# Altium schematic symbol library kmilo17pet-Microchip_MixedSignal.SchLib: 1399 symbols (part 32 of 36)
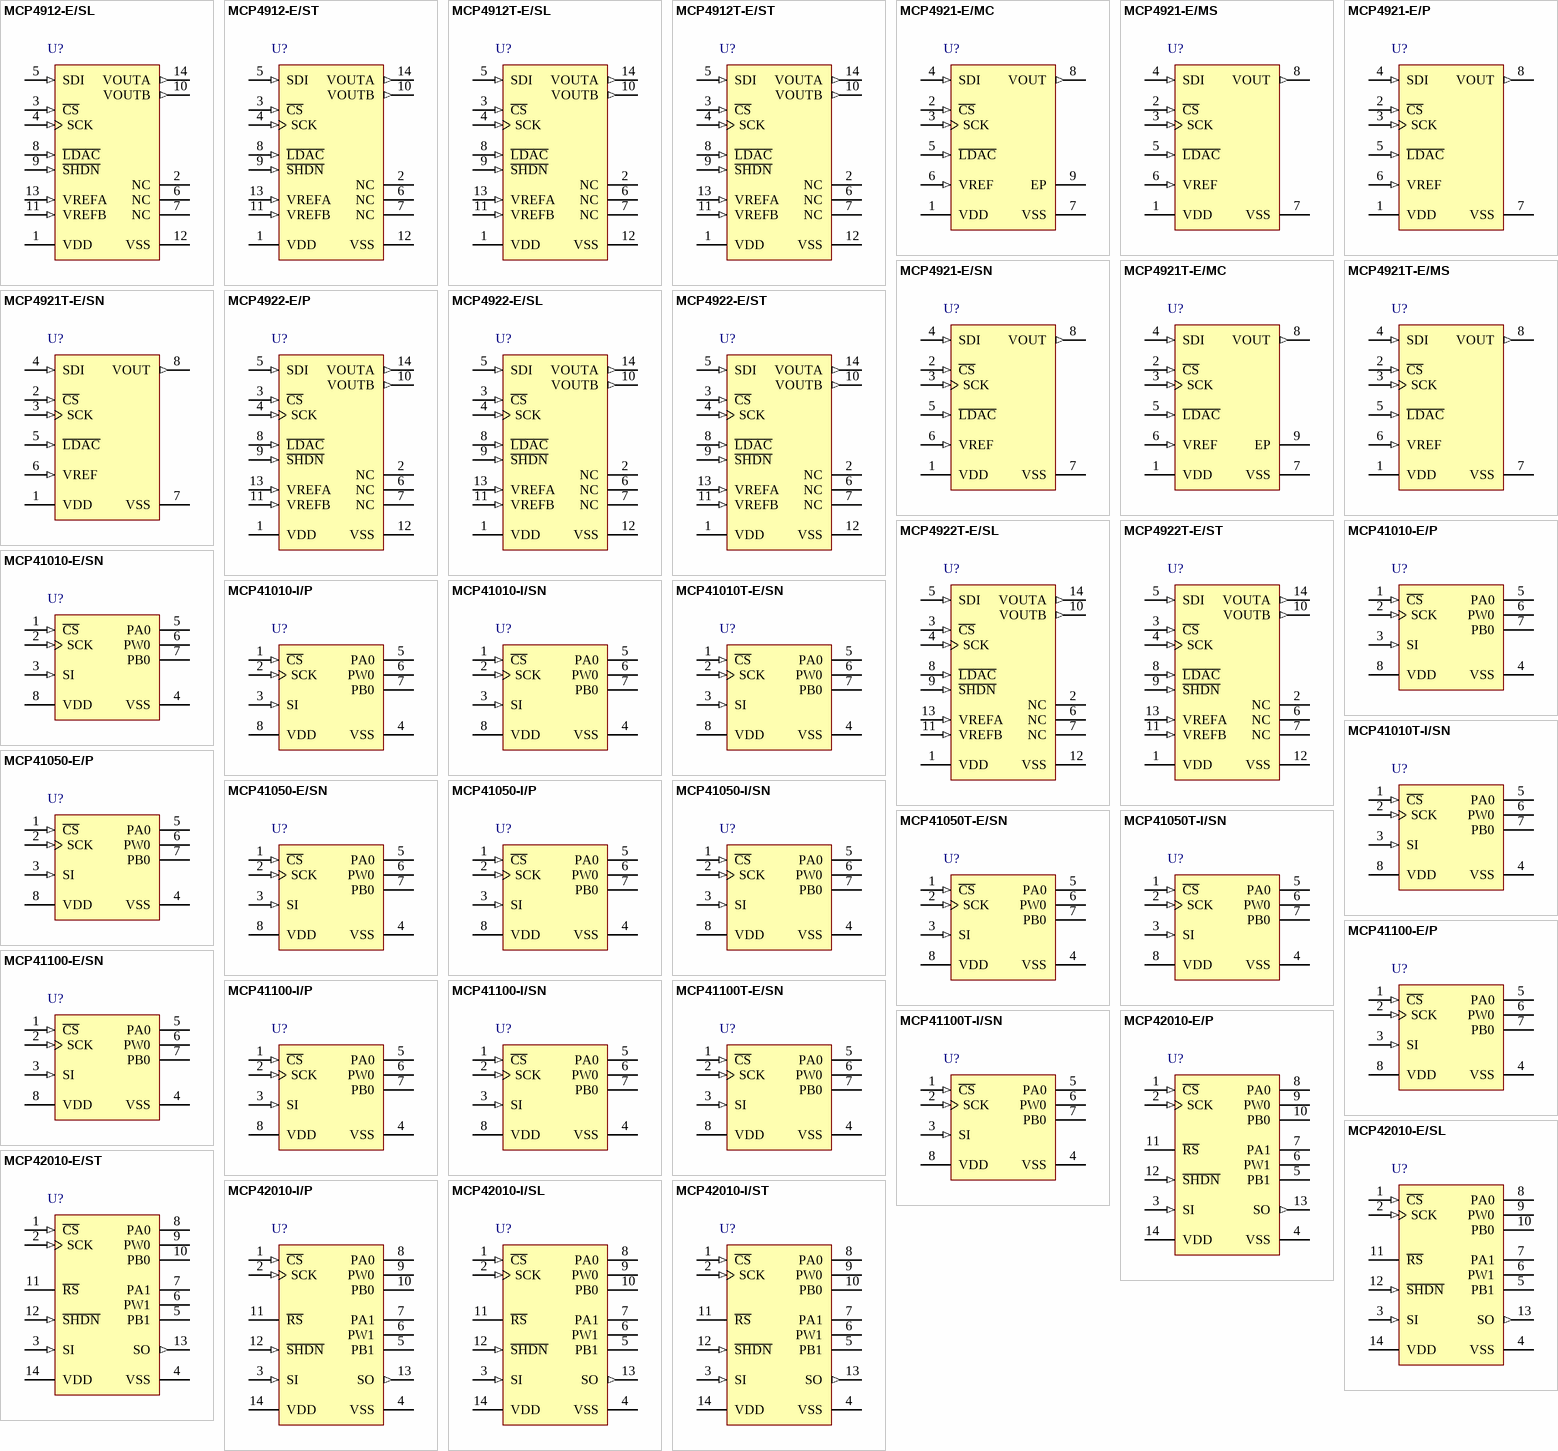
[diagram p75: symbols MCP4912-E/SL to MCP42010-I/ST]

## MCP42010-I/SL
designator U?
Single/Dual Digital Potentiometer with SPI Interface, 14-Pin SOIC 150mil, Industrial Temperature; Manufacturer: Microchip; PartNumber: MCP42010-I/SL; DatasheetVersion: Jul-2003; PackageVersion: revBB, Aug-2009; PackageReference: SOIC-SL14; PackageDescription: 14-Lead Plastic Small Outline (SL) - Narrow, 3.90mm Body [SOIC]; Supplier 1: Digi-Key; Supplier Part Number 1: MCP42010-I/SL-ND; Mounting Technology: Surface Mount; Code_JEDEC: MS-012-AB; Code_IPC: SOIC127P600-14; ComponentLink1Description: Manufacturer URL; ComponentLink1URL: http://www.microchip.com/; ComponentLink2Description: Datasheet; ComponentLink2URL: http://ww1.microchip.com/downloads/en/DeviceDoc/11195c.pdf; ComponentLink3Description: Package Specification; ComponentLink3URL: http://www.microchip.com/stellent/groups/techpub_sg/documents/packagingspec/en012702.pdf
footprint SOIC-SL14_N (SOIC, 14-Leads, Body 8.7x3.9mm, Pitch 1.27mm, IPC Medium Density)
footprint SOIC-SL14_L (SOIC, 14-Leads, Body 8.7x3.9mm, Pitch 1.27mm, IPC High Density)
footprint SOIC-SL14_M (SOIC, 14-Leads, Body 8.7x3.9mm, Pitch 1.27mm, IPC Low Density)
pins: 1 ~{CS} (in), 2 SCK (in), 3 SI (in), 4 VSS (power), 5 PB1, 6 PW1, 7 PA1, 8 PA0, 9 PW0, 10 PB0, 11 ~{RS}, 12 ~{SHDN} (in), 13 SO (out), 14 VDD (power)

## MCP42010-I/ST
designator U?
Single/Dual Digital Potentiometer with SPI Interface, 14-Pin TSSOP, Industrial Temperature; Manufacturer: Microchip; PartNumber: MCP42010-I/ST; DatasheetVersion: Jul-2003; PackageVersion: revBB, Aug-2009; PackageReference: TSSOP-ST14; PackageDescription: 14-Lead Plastic Thin Shrink Small Outline (ST) - 4.4mm Body [TSSOP]; Supplier 1: Digi-Key; Supplier Part Number 1: MCP42010-I/ST-ND; Mounting Technology: Surface Mount; ComponentLink1Description: Manufacturer URL; ComponentLink1URL: http://www.microchip.com/; ComponentLink2Description: Datasheet; ComponentLink2URL: http://ww1.microchip.com/downloads/en/DeviceDoc/11195c.pdf; ComponentLink3Description: Package Specification; ComponentLink3URL: http://www.microchip.com/stellent/groups/techpub_sg/documents/packagingspec/en012702.pdf
footprint TSSOP-ST14_N (TSOP, 14-Leads, Body 5x4.4mm, Pitch 0.65mm, IPC Medium Density)
footprint TSSOP-ST14_L (TSOP, 14-Leads, Body 5x4.4mm, Pitch 0.65mm, IPC High Density)
footprint TSSOP-ST14_M (TSOP, 14-Leads, Body 5x4.4mm, Pitch 0.65mm, IPC Low Density)
pins: 1 ~{CS} (in), 2 SCK (in), 3 SI (in), 4 VSS (power), 5 PB1, 6 PW1, 7 PA1, 8 PA0, 9 PW0, 10 PB0, 11 ~{RS}, 12 ~{SHDN} (in), 13 SO (out), 14 VDD (power)

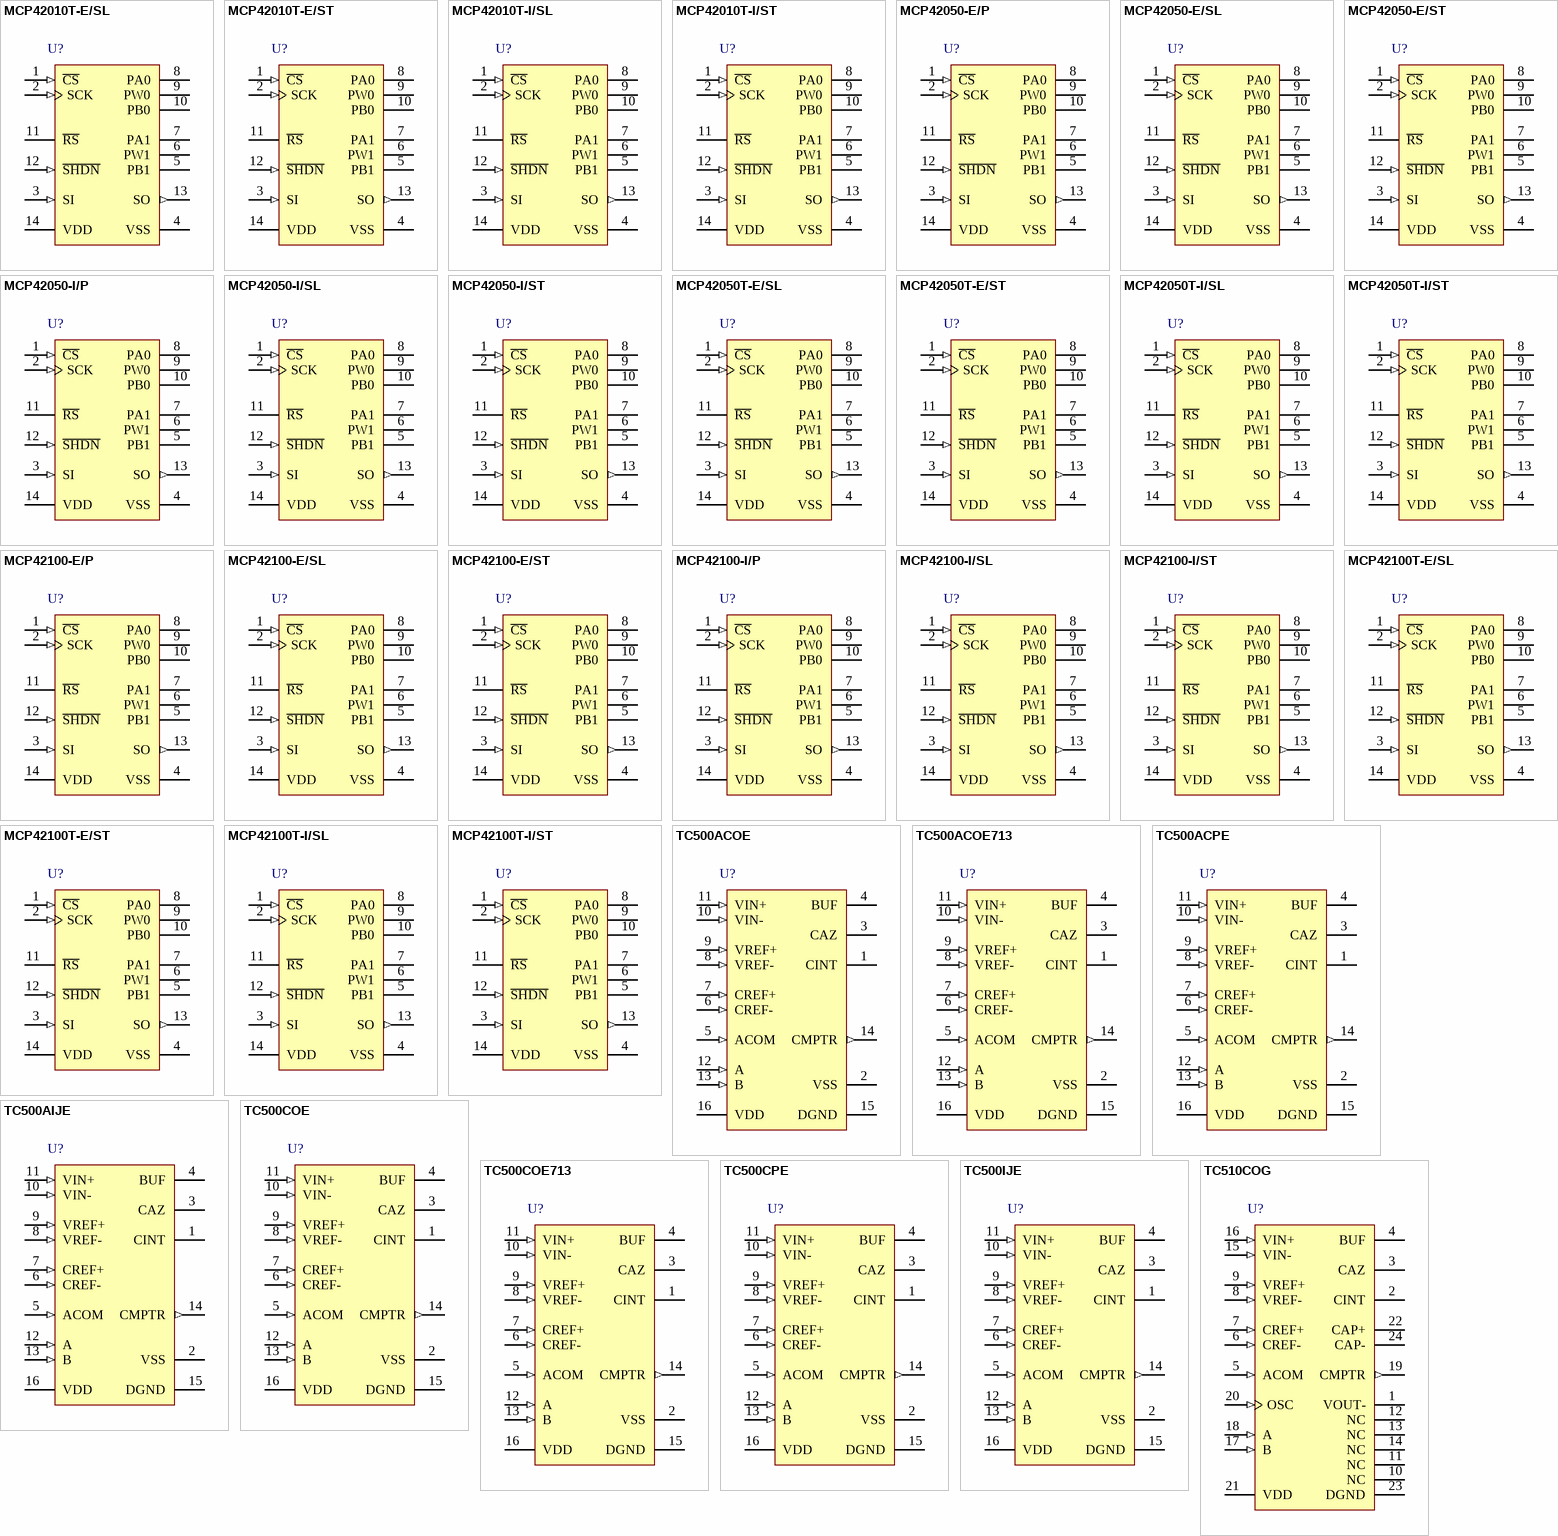
[diagram p36: symbols MCP42010T-E/SL to TC510COG]

## MCP42010T-E/SL
designator U?
Single/Dual Digital Potentiometer with SPI Interface, 14-Pin SOIC 150mil, Extended Temperature, Tape and Reel; Manufacturer: Microchip; PartNumber: MCP42010T-E/SL; DatasheetVersion: Jul-2003; PackageVersion: revBB, Aug-2009; PackageReference: SOIC-SL14; PackageDescription: 14-Lead Plastic Small Outline (SL) - Narrow, 3.90mm Body [SOIC]; Supplier 1: Digi-Key; Supplier Part Number 1: MCP42010T-E/SL-ND; Mounting Technology: Surface Mount; Code_JEDEC: MS-012-AB; Code_IPC: SOIC127P600-14; ComponentLink1Description: Manufacturer URL; ComponentLink1URL: http://www.microchip.com/; ComponentLink2Description: Datasheet; ComponentLink2URL: http://ww1.microchip.com/downloads/en/DeviceDoc/11195c.pdf; ComponentLink3Description: Package Specification; ComponentLink3URL: http://www.microchip.com/stellent/groups/techpub_sg/documents/packagingspec/en012702.pdf
footprint SOIC-SL14_N (SOIC, 14-Leads, Body 8.7x3.9mm, Pitch 1.27mm, IPC Medium Density)
footprint SOIC-SL14_L (SOIC, 14-Leads, Body 8.7x3.9mm, Pitch 1.27mm, IPC High Density)
footprint SOIC-SL14_M (SOIC, 14-Leads, Body 8.7x3.9mm, Pitch 1.27mm, IPC Low Density)
pins: 1 ~{CS} (in), 2 SCK (in), 3 SI (in), 4 VSS (power), 5 PB1, 6 PW1, 7 PA1, 8 PA0, 9 PW0, 10 PB0, 11 ~{RS}, 12 ~{SHDN} (in), 13 SO (out), 14 VDD (power)

## MCP42010T-E/ST
designator U?
Single/Dual Digital Potentiometer with SPI Interface, 14-Pin TSSOP, Extended Temperature, Tape and Reel; Manufacturer: Microchip; PartNumber: MCP42010T-E/ST; DatasheetVersion: Jul-2003; PackageVersion: revBB, Aug-2009; PackageReference: TSSOP-ST14; PackageDescription: 14-Lead Plastic Thin Shrink Small Outline (ST) - 4.4mm Body [TSSOP]; Supplier 1: Digi-Key; Supplier Part Number 1: MCP42010T-E/ST-ND; Mounting Technology: Surface Mount; ComponentLink1Description: Manufacturer URL; ComponentLink1URL: http://www.microchip.com/; ComponentLink2Description: Datasheet; ComponentLink2URL: http://ww1.microchip.com/downloads/en/DeviceDoc/11195c.pdf; ComponentLink3Description: Package Specification; ComponentLink3URL: http://www.microchip.com/stellent/groups/techpub_sg/documents/packagingspec/en012702.pdf
footprint TSSOP-ST14_N (TSOP, 14-Leads, Body 5x4.4mm, Pitch 0.65mm, IPC Medium Density)
footprint TSSOP-ST14_L (TSOP, 14-Leads, Body 5x4.4mm, Pitch 0.65mm, IPC High Density)
footprint TSSOP-ST14_M (TSOP, 14-Leads, Body 5x4.4mm, Pitch 0.65mm, IPC Low Density)
pins: 1 ~{CS} (in), 2 SCK (in), 3 SI (in), 4 VSS (power), 5 PB1, 6 PW1, 7 PA1, 8 PA0, 9 PW0, 10 PB0, 11 ~{RS}, 12 ~{SHDN} (in), 13 SO (out), 14 VDD (power)

## MCP42010T-I/SL
designator U?
Single/Dual Digital Potentiometer with SPI Interface, 14-Pin SOIC 150mil, Industrial Temperature, Tape and Reel; Manufacturer: Microchip; PartNumber: MCP42010T-I/SL; DatasheetVersion: Jul-2003; PackageVersion: revBB, Aug-2009; PackageReference: SOIC-SL14; PackageDescription: 14-Lead Plastic Small Outline (SL) - Narrow, 3.90mm Body [SOIC]; Supplier 1: Digi-Key; Supplier Part Number 1: MCP42010T-I/SL-ND; Mounting Technology: Surface Mount; Code_JEDEC: MS-012-AB; Code_IPC: SOIC127P600-14; ComponentLink1Description: Manufacturer URL; ComponentLink1URL: http://www.microchip.com/; ComponentLink2Description: Datasheet; ComponentLink2URL: http://ww1.microchip.com/downloads/en/DeviceDoc/11195c.pdf; ComponentLink3Description: Package Specification; ComponentLink3URL: http://www.microchip.com/stellent/groups/techpub_sg/documents/packagingspec/en012702.pdf
footprint SOIC-SL14_N (SOIC, 14-Leads, Body 8.7x3.9mm, Pitch 1.27mm, IPC Medium Density)
footprint SOIC-SL14_L (SOIC, 14-Leads, Body 8.7x3.9mm, Pitch 1.27mm, IPC High Density)
footprint SOIC-SL14_M (SOIC, 14-Leads, Body 8.7x3.9mm, Pitch 1.27mm, IPC Low Density)
pins: 1 ~{CS} (in), 2 SCK (in), 3 SI (in), 4 VSS (power), 5 PB1, 6 PW1, 7 PA1, 8 PA0, 9 PW0, 10 PB0, 11 ~{RS}, 12 ~{SHDN} (in), 13 SO (out), 14 VDD (power)

## MCP42010T-I/ST
designator U?
Single/Dual Digital Potentiometer with SPI Interface, 14-Pin TSSOP, Industrial Temperature, Tape and Reel; Manufacturer: Microchip; PartNumber: MCP42010T-I/ST; DatasheetVersion: Jul-2003; PackageVersion: revBB, Aug-2009; PackageReference: TSSOP-ST14; PackageDescription: 14-Lead Plastic Thin Shrink Small Outline (ST) - 4.4mm Body [TSSOP]; Supplier 1: Digi-Key; Supplier Part Number 1: MCP42010T-I/ST-ND; Mounting Technology: Surface Mount; ComponentLink1Description: Manufacturer URL; ComponentLink1URL: http://www.microchip.com/; ComponentLink2Description: Datasheet; ComponentLink2URL: http://ww1.microchip.com/downloads/en/DeviceDoc/11195c.pdf; ComponentLink3Description: Package Specification; ComponentLink3URL: http://www.microchip.com/stellent/groups/techpub_sg/documents/packagingspec/en012702.pdf
footprint TSSOP-ST14_N (TSOP, 14-Leads, Body 5x4.4mm, Pitch 0.65mm, IPC Medium Density)
footprint TSSOP-ST14_L (TSOP, 14-Leads, Body 5x4.4mm, Pitch 0.65mm, IPC High Density)
footprint TSSOP-ST14_M (TSOP, 14-Leads, Body 5x4.4mm, Pitch 0.65mm, IPC Low Density)
pins: 1 ~{CS} (in), 2 SCK (in), 3 SI (in), 4 VSS (power), 5 PB1, 6 PW1, 7 PA1, 8 PA0, 9 PW0, 10 PB0, 11 ~{RS}, 12 ~{SHDN} (in), 13 SO (out), 14 VDD (power)

## MCP42050-E/P
designator U?
Single/Dual Digital Potentiometer with SPI Interface, 14-Pin PDIP, Extended Temperature; Manufacturer: Microchip; PartNumber: MCP42050-E/P; DatasheetVersion: Jul-2003; PackageVersion: revBB, Aug-2009; PackageReference: PDIP300-P14; PackageDescription: 14-Lead Plastic Dual In-Line (P) - 300 mil Body [PDIP]; Supplier 1: Digi-Key; Supplier Part Number 1: MCP42050-E/P-ND; Mounting Technology: Through Hole; ComponentLink1Description: Manufacturer URL; ComponentLink1URL: http://www.microchip.com/; ComponentLink2Description: Datasheet; ComponentLink2URL: http://ww1.microchip.com/downloads/en/DeviceDoc/11195c.pdf; ComponentLink3Description: Package Specification; ComponentLink3URL: http://www.microchip.com/stellent/groups/techpub_sg/documents/packagingspec/en012702.pdf
footprint PDIP300-P14 (DIP, 14-Leads, Row Spacing 7.62mm, Pitch 2.54mm, Body 19.2x6.6mm)
pins: 1 ~{CS} (in), 2 SCK (in), 3 SI (in), 4 VSS (power), 5 PB1, 6 PW1, 7 PA1, 8 PA0, 9 PW0, 10 PB0, 11 ~{RS}, 12 ~{SHDN} (in), 13 SO (out), 14 VDD (power)

## MCP42050-E/SL
designator U?
Single/Dual Digital Potentiometer with SPI Interface, 14-Pin SOIC 150mil, Extended Temperature; Manufacturer: Microchip; PartNumber: MCP42050-E/SL; DatasheetVersion: Jul-2003; PackageVersion: revBB, Aug-2009; PackageReference: SOIC-SL14; PackageDescription: 14-Lead Plastic Small Outline (SL) - Narrow, 3.90mm Body [SOIC]; Supplier 1: Digi-Key; Supplier Part Number 1: MCP42050-E/SL-ND; Mounting Technology: Surface Mount; Code_JEDEC: MS-012-AB; Code_IPC: SOIC127P600-14; ComponentLink1Description: Manufacturer URL; ComponentLink1URL: http://www.microchip.com/; ComponentLink2Description: Datasheet; ComponentLink2URL: http://ww1.microchip.com/downloads/en/DeviceDoc/11195c.pdf; ComponentLink3Description: Package Specification; ComponentLink3URL: http://www.microchip.com/stellent/groups/techpub_sg/documents/packagingspec/en012702.pdf
footprint SOIC-SL14_N (SOIC, 14-Leads, Body 8.7x3.9mm, Pitch 1.27mm, IPC Medium Density)
footprint SOIC-SL14_L (SOIC, 14-Leads, Body 8.7x3.9mm, Pitch 1.27mm, IPC High Density)
footprint SOIC-SL14_M (SOIC, 14-Leads, Body 8.7x3.9mm, Pitch 1.27mm, IPC Low Density)
pins: 1 ~{CS} (in), 2 SCK (in), 3 SI (in), 4 VSS (power), 5 PB1, 6 PW1, 7 PA1, 8 PA0, 9 PW0, 10 PB0, 11 ~{RS}, 12 ~{SHDN} (in), 13 SO (out), 14 VDD (power)

## MCP42050-E/ST
designator U?
Single/Dual Digital Potentiometer with SPI Interface, 14-Pin TSSOP, Extended Temperature; Manufacturer: Microchip; PartNumber: MCP42050-E/ST; DatasheetVersion: Jul-2003; PackageVersion: revBB, Aug-2009; PackageReference: TSSOP-ST14; PackageDescription: 14-Lead Plastic Thin Shrink Small Outline (ST) - 4.4mm Body [TSSOP]; Supplier 1: Digi-Key; Supplier Part Number 1: MCP42050-E/ST-ND; Mounting Technology: Surface Mount; ComponentLink1Description: Manufacturer URL; ComponentLink1URL: http://www.microchip.com/; ComponentLink2Description: Datasheet; ComponentLink2URL: http://ww1.microchip.com/downloads/en/DeviceDoc/11195c.pdf; ComponentLink3Description: Package Specification; ComponentLink3URL: http://www.microchip.com/stellent/groups/techpub_sg/documents/packagingspec/en012702.pdf
footprint TSSOP-ST14_N (TSOP, 14-Leads, Body 5x4.4mm, Pitch 0.65mm, IPC Medium Density)
footprint TSSOP-ST14_L (TSOP, 14-Leads, Body 5x4.4mm, Pitch 0.65mm, IPC High Density)
footprint TSSOP-ST14_M (TSOP, 14-Leads, Body 5x4.4mm, Pitch 0.65mm, IPC Low Density)
pins: 1 ~{CS} (in), 2 SCK (in), 3 SI (in), 4 VSS (power), 5 PB1, 6 PW1, 7 PA1, 8 PA0, 9 PW0, 10 PB0, 11 ~{RS}, 12 ~{SHDN} (in), 13 SO (out), 14 VDD (power)

## MCP42050-I/P
designator U?
Single/Dual Digital Potentiometer with SPI Interface, 14-Pin PDIP, Industrial Temperature; Manufacturer: Microchip; PartNumber: MCP42050-I/P; DatasheetVersion: Jul-2003; PackageVersion: revBB, Aug-2009; PackageReference: PDIP300-P14; PackageDescription: 14-Lead Plastic Dual In-Line (P) - 300 mil Body [PDIP]; Supplier 1: Digi-Key; Supplier Part Number 1: MCP42050-I/P-ND; Mounting Technology: Through Hole; ComponentLink1Description: Manufacturer URL; ComponentLink1URL: http://www.microchip.com/; ComponentLink2Description: Datasheet; ComponentLink2URL: http://ww1.microchip.com/downloads/en/DeviceDoc/11195c.pdf; ComponentLink3Description: Package Specification; ComponentLink3URL: http://www.microchip.com/stellent/groups/techpub_sg/documents/packagingspec/en012702.pdf
footprint PDIP300-P14 (DIP, 14-Leads, Row Spacing 7.62mm, Pitch 2.54mm, Body 19.2x6.6mm)
pins: 1 ~{CS} (in), 2 SCK (in), 3 SI (in), 4 VSS (power), 5 PB1, 6 PW1, 7 PA1, 8 PA0, 9 PW0, 10 PB0, 11 ~{RS}, 12 ~{SHDN} (in), 13 SO (out), 14 VDD (power)

## MCP42050-I/SL
designator U?
Single/Dual Digital Potentiometer with SPI Interface, 14-Pin SOIC 150mil, Industrial Temperature; Manufacturer: Microchip; PartNumber: MCP42050-I/SL; DatasheetVersion: Jul-2003; PackageVersion: revBB, Aug-2009; PackageReference: SOIC-SL14; PackageDescription: 14-Lead Plastic Small Outline (SL) - Narrow, 3.90mm Body [SOIC]; Supplier 1: Digi-Key; Supplier Part Number 1: MCP42050-I/SL-ND; Mounting Technology: Surface Mount; Code_JEDEC: MS-012-AB; Code_IPC: SOIC127P600-14; ComponentLink1Description: Manufacturer URL; ComponentLink1URL: http://www.microchip.com/; ComponentLink2Description: Datasheet; ComponentLink2URL: http://ww1.microchip.com/downloads/en/DeviceDoc/11195c.pdf; ComponentLink3Description: Package Specification; ComponentLink3URL: http://www.microchip.com/stellent/groups/techpub_sg/documents/packagingspec/en012702.pdf
footprint SOIC-SL14_N (SOIC, 14-Leads, Body 8.7x3.9mm, Pitch 1.27mm, IPC Medium Density)
footprint SOIC-SL14_L (SOIC, 14-Leads, Body 8.7x3.9mm, Pitch 1.27mm, IPC High Density)
footprint SOIC-SL14_M (SOIC, 14-Leads, Body 8.7x3.9mm, Pitch 1.27mm, IPC Low Density)
pins: 1 ~{CS} (in), 2 SCK (in), 3 SI (in), 4 VSS (power), 5 PB1, 6 PW1, 7 PA1, 8 PA0, 9 PW0, 10 PB0, 11 ~{RS}, 12 ~{SHDN} (in), 13 SO (out), 14 VDD (power)

## MCP42050-I/ST
designator U?
Single/Dual Digital Potentiometer with SPI Interface, 14-Pin TSSOP, Industrial Temperature; Manufacturer: Microchip; PartNumber: MCP42050-I/ST; DatasheetVersion: Jul-2003; PackageVersion: revBB, Aug-2009; PackageReference: TSSOP-ST14; PackageDescription: 14-Lead Plastic Thin Shrink Small Outline (ST) - 4.4mm Body [TSSOP]; Supplier 1: Digi-Key; Supplier Part Number 1: MCP42050-I/ST-ND; Mounting Technology: Surface Mount; ComponentLink1Description: Manufacturer URL; ComponentLink1URL: http://www.microchip.com/; ComponentLink2Description: Datasheet; ComponentLink2URL: http://ww1.microchip.com/downloads/en/DeviceDoc/11195c.pdf; ComponentLink3Description: Package Specification; ComponentLink3URL: http://www.microchip.com/stellent/groups/techpub_sg/documents/packagingspec/en012702.pdf
footprint TSSOP-ST14_N (TSOP, 14-Leads, Body 5x4.4mm, Pitch 0.65mm, IPC Medium Density)
footprint TSSOP-ST14_L (TSOP, 14-Leads, Body 5x4.4mm, Pitch 0.65mm, IPC High Density)
footprint TSSOP-ST14_M (TSOP, 14-Leads, Body 5x4.4mm, Pitch 0.65mm, IPC Low Density)
pins: 1 ~{CS} (in), 2 SCK (in), 3 SI (in), 4 VSS (power), 5 PB1, 6 PW1, 7 PA1, 8 PA0, 9 PW0, 10 PB0, 11 ~{RS}, 12 ~{SHDN} (in), 13 SO (out), 14 VDD (power)

## MCP42050T-E/SL
designator U?
Single/Dual Digital Potentiometer with SPI Interface, 14-Pin SOIC 150mil, Extended Temperature, Tape and Reel; Manufacturer: Microchip; PartNumber: MCP42050T-E/SL; DatasheetVersion: Jul-2003; PackageVersion: revBB, Aug-2009; PackageReference: SOIC-SL14; PackageDescription: 14-Lead Plastic Small Outline (SL) - Narrow, 3.90mm Body [SOIC]; Supplier 1: Digi-Key; Supplier Part Number 1: MCP42050T-E/SL-ND; Mounting Technology: Surface Mount; Code_JEDEC: MS-012-AB; Code_IPC: SOIC127P600-14; ComponentLink1Description: Manufacturer URL; ComponentLink1URL: http://www.microchip.com/; ComponentLink2Description: Datasheet; ComponentLink2URL: http://ww1.microchip.com/downloads/en/DeviceDoc/11195c.pdf; ComponentLink3Description: Package Specification; ComponentLink3URL: http://www.microchip.com/stellent/groups/techpub_sg/documents/packagingspec/en012702.pdf
footprint SOIC-SL14_N (SOIC, 14-Leads, Body 8.7x3.9mm, Pitch 1.27mm, IPC Medium Density)
footprint SOIC-SL14_L (SOIC, 14-Leads, Body 8.7x3.9mm, Pitch 1.27mm, IPC High Density)
footprint SOIC-SL14_M (SOIC, 14-Leads, Body 8.7x3.9mm, Pitch 1.27mm, IPC Low Density)
pins: 1 ~{CS} (in), 2 SCK (in), 3 SI (in), 4 VSS (power), 5 PB1, 6 PW1, 7 PA1, 8 PA0, 9 PW0, 10 PB0, 11 ~{RS}, 12 ~{SHDN} (in), 13 SO (out), 14 VDD (power)

## MCP42050T-E/ST
designator U?
Single/Dual Digital Potentiometer with SPI Interface, 14-Pin TSSOP, Extended Temperature, Tape and Reel; Manufacturer: Microchip; PartNumber: MCP42050T-E/ST; DatasheetVersion: Jul-2003; PackageVersion: revBB, Aug-2009; PackageReference: TSSOP-ST14; PackageDescription: 14-Lead Plastic Thin Shrink Small Outline (ST) - 4.4mm Body [TSSOP]; Supplier 1: Digi-Key; Supplier Part Number 1: MCP42050T-E/ST-ND; Mounting Technology: Surface Mount; ComponentLink1Description: Manufacturer URL; ComponentLink1URL: http://www.microchip.com/; ComponentLink2Description: Datasheet; ComponentLink2URL: http://ww1.microchip.com/downloads/en/DeviceDoc/11195c.pdf; ComponentLink3Description: Package Specification; ComponentLink3URL: http://www.microchip.com/stellent/groups/techpub_sg/documents/packagingspec/en012702.pdf
footprint TSSOP-ST14_N (TSOP, 14-Leads, Body 5x4.4mm, Pitch 0.65mm, IPC Medium Density)
footprint TSSOP-ST14_L (TSOP, 14-Leads, Body 5x4.4mm, Pitch 0.65mm, IPC High Density)
footprint TSSOP-ST14_M (TSOP, 14-Leads, Body 5x4.4mm, Pitch 0.65mm, IPC Low Density)
pins: 1 ~{CS} (in), 2 SCK (in), 3 SI (in), 4 VSS (power), 5 PB1, 6 PW1, 7 PA1, 8 PA0, 9 PW0, 10 PB0, 11 ~{RS}, 12 ~{SHDN} (in), 13 SO (out), 14 VDD (power)

## MCP42050T-I/SL
designator U?
Single/Dual Digital Potentiometer with SPI Interface, 14-Pin SOIC 150mil, Industrial Temperature, Tape and Reel; Manufacturer: Microchip; PartNumber: MCP42050T-I/SL; DatasheetVersion: Jul-2003; PackageVersion: revBB, Aug-2009; PackageReference: SOIC-SL14; PackageDescription: 14-Lead Plastic Small Outline (SL) - Narrow, 3.90mm Body [SOIC]; Supplier 1: Digi-Key; Supplier Part Number 1: MCP42050T-I/SL-ND; Mounting Technology: Surface Mount; Code_JEDEC: MS-012-AB; Code_IPC: SOIC127P600-14; ComponentLink1Description: Manufacturer URL; ComponentLink1URL: http://www.microchip.com/; ComponentLink2Description: Datasheet; ComponentLink2URL: http://ww1.microchip.com/downloads/en/DeviceDoc/11195c.pdf; ComponentLink3Description: Package Specification; ComponentLink3URL: http://www.microchip.com/stellent/groups/techpub_sg/documents/packagingspec/en012702.pdf
footprint SOIC-SL14_N (SOIC, 14-Leads, Body 8.7x3.9mm, Pitch 1.27mm, IPC Medium Density)
footprint SOIC-SL14_L (SOIC, 14-Leads, Body 8.7x3.9mm, Pitch 1.27mm, IPC High Density)
footprint SOIC-SL14_M (SOIC, 14-Leads, Body 8.7x3.9mm, Pitch 1.27mm, IPC Low Density)
pins: 1 ~{CS} (in), 2 SCK (in), 3 SI (in), 4 VSS (power), 5 PB1, 6 PW1, 7 PA1, 8 PA0, 9 PW0, 10 PB0, 11 ~{RS}, 12 ~{SHDN} (in), 13 SO (out), 14 VDD (power)

## MCP42050T-I/ST
designator U?
Single/Dual Digital Potentiometer with SPI Interface, 14-Pin TSSOP, Industrial Temperature, Tape and Reel; Manufacturer: Microchip; PartNumber: MCP42050T-I/ST; DatasheetVersion: Jul-2003; PackageVersion: revBB, Aug-2009; PackageReference: TSSOP-ST14; PackageDescription: 14-Lead Plastic Thin Shrink Small Outline (ST) - 4.4mm Body [TSSOP]; Supplier 1: Digi-Key; Supplier Part Number 1: MCP42050T-I/ST-ND; Mounting Technology: Surface Mount; ComponentLink1Description: Manufacturer URL; ComponentLink1URL: http://www.microchip.com/; ComponentLink2Description: Datasheet; ComponentLink2URL: http://ww1.microchip.com/downloads/en/DeviceDoc/11195c.pdf; ComponentLink3Description: Package Specification; ComponentLink3URL: http://www.microchip.com/stellent/groups/techpub_sg/documents/packagingspec/en012702.pdf
footprint TSSOP-ST14_N (TSOP, 14-Leads, Body 5x4.4mm, Pitch 0.65mm, IPC Medium Density)
footprint TSSOP-ST14_L (TSOP, 14-Leads, Body 5x4.4mm, Pitch 0.65mm, IPC High Density)
footprint TSSOP-ST14_M (TSOP, 14-Leads, Body 5x4.4mm, Pitch 0.65mm, IPC Low Density)
pins: 1 ~{CS} (in), 2 SCK (in), 3 SI (in), 4 VSS (power), 5 PB1, 6 PW1, 7 PA1, 8 PA0, 9 PW0, 10 PB0, 11 ~{RS}, 12 ~{SHDN} (in), 13 SO (out), 14 VDD (power)

## MCP42100-E/P
designator U?
Single/Dual Digital Potentiometer with SPI Interface, 14-Pin PDIP, Extended Temperature; Manufacturer: Microchip; PartNumber: MCP42100-E/P; DatasheetVersion: Jul-2003; PackageVersion: revBB, Aug-2009; PackageReference: PDIP300-P14; PackageDescription: 14-Lead Plastic Dual In-Line (P) - 300 mil Body [PDIP]; Supplier 1: Digi-Key; Supplier Part Number 1: MCP42100-E/P-ND; Mounting Technology: Through Hole; ComponentLink1Description: Manufacturer URL; ComponentLink1URL: http://www.microchip.com/; ComponentLink2Description: Datasheet; ComponentLink2URL: http://ww1.microchip.com/downloads/en/DeviceDoc/11195c.pdf; ComponentLink3Description: Package Specification; ComponentLink3URL: http://www.microchip.com/stellent/groups/techpub_sg/documents/packagingspec/en012702.pdf
footprint PDIP300-P14 (DIP, 14-Leads, Row Spacing 7.62mm, Pitch 2.54mm, Body 19.2x6.6mm)
pins: 1 ~{CS} (in), 2 SCK (in), 3 SI (in), 4 VSS (power), 5 PB1, 6 PW1, 7 PA1, 8 PA0, 9 PW0, 10 PB0, 11 ~{RS}, 12 ~{SHDN} (in), 13 SO (out), 14 VDD (power)

## MCP42100-E/SL
designator U?
Single/Dual Digital Potentiometer with SPI Interface, 14-Pin SOIC 150mil, Extended Temperature; Manufacturer: Microchip; PartNumber: MCP42100-E/SL; DatasheetVersion: Jul-2003; PackageVersion: revBB, Aug-2009; PackageReference: SOIC-SL14; PackageDescription: 14-Lead Plastic Small Outline (SL) - Narrow, 3.90mm Body [SOIC]; Supplier 1: Digi-Key; Supplier Part Number 1: MCP42100-E/SL-ND; Mounting Technology: Surface Mount; Code_JEDEC: MS-012-AB; Code_IPC: SOIC127P600-14; ComponentLink1Description: Manufacturer URL; ComponentLink1URL: http://www.microchip.com/; ComponentLink2Description: Datasheet; ComponentLink2URL: http://ww1.microchip.com/downloads/en/DeviceDoc/11195c.pdf; ComponentLink3Description: Package Specification; ComponentLink3URL: http://www.microchip.com/stellent/groups/techpub_sg/documents/packagingspec/en012702.pdf
footprint SOIC-SL14_N (SOIC, 14-Leads, Body 8.7x3.9mm, Pitch 1.27mm, IPC Medium Density)
footprint SOIC-SL14_L (SOIC, 14-Leads, Body 8.7x3.9mm, Pitch 1.27mm, IPC High Density)
footprint SOIC-SL14_M (SOIC, 14-Leads, Body 8.7x3.9mm, Pitch 1.27mm, IPC Low Density)
pins: 1 ~{CS} (in), 2 SCK (in), 3 SI (in), 4 VSS (power), 5 PB1, 6 PW1, 7 PA1, 8 PA0, 9 PW0, 10 PB0, 11 ~{RS}, 12 ~{SHDN} (in), 13 SO (out), 14 VDD (power)

## MCP42100-E/ST
designator U?
Single/Dual Digital Potentiometer with SPI Interface, 14-Pin TSSOP, Extended Temperature; Manufacturer: Microchip; PartNumber: MCP42100-E/ST; DatasheetVersion: Jul-2003; PackageVersion: revBB, Aug-2009; PackageReference: TSSOP-ST14; PackageDescription: 14-Lead Plastic Thin Shrink Small Outline (ST) - 4.4mm Body [TSSOP]; Supplier 1: Digi-Key; Supplier Part Number 1: MCP42100-E/ST-ND; Mounting Technology: Surface Mount; ComponentLink1Description: Manufacturer URL; ComponentLink1URL: http://www.microchip.com/; ComponentLink2Description: Datasheet; ComponentLink2URL: http://ww1.microchip.com/downloads/en/DeviceDoc/11195c.pdf; ComponentLink3Description: Package Specification; ComponentLink3URL: http://www.microchip.com/stellent/groups/techpub_sg/documents/packagingspec/en012702.pdf
footprint TSSOP-ST14_N (TSOP, 14-Leads, Body 5x4.4mm, Pitch 0.65mm, IPC Medium Density)
footprint TSSOP-ST14_L (TSOP, 14-Leads, Body 5x4.4mm, Pitch 0.65mm, IPC High Density)
footprint TSSOP-ST14_M (TSOP, 14-Leads, Body 5x4.4mm, Pitch 0.65mm, IPC Low Density)
pins: 1 ~{CS} (in), 2 SCK (in), 3 SI (in), 4 VSS (power), 5 PB1, 6 PW1, 7 PA1, 8 PA0, 9 PW0, 10 PB0, 11 ~{RS}, 12 ~{SHDN} (in), 13 SO (out), 14 VDD (power)

## MCP42100-I/P
designator U?
Single/Dual Digital Potentiometer with SPI Interface, 14-Pin PDIP, Industrial Temperature; Manufacturer: Microchip; PartNumber: MCP42100-I/P; DatasheetVersion: Jul-2003; PackageVersion: revBB, Aug-2009; PackageReference: PDIP300-P14; PackageDescription: 14-Lead Plastic Dual In-Line (P) - 300 mil Body [PDIP]; Supplier 1: Digi-Key; Supplier Part Number 1: MCP42100-I/P-ND; Mounting Technology: Through Hole; ComponentLink1Description: Manufacturer URL; ComponentLink1URL: http://www.microchip.com/; ComponentLink2Description: Datasheet; ComponentLink2URL: http://ww1.microchip.com/downloads/en/DeviceDoc/11195c.pdf; ComponentLink3Description: Package Specification; ComponentLink3URL: http://www.microchip.com/stellent/groups/techpub_sg/documents/packagingspec/en012702.pdf
footprint PDIP300-P14 (DIP, 14-Leads, Row Spacing 7.62mm, Pitch 2.54mm, Body 19.2x6.6mm)
pins: 1 ~{CS} (in), 2 SCK (in), 3 SI (in), 4 VSS (power), 5 PB1, 6 PW1, 7 PA1, 8 PA0, 9 PW0, 10 PB0, 11 ~{RS}, 12 ~{SHDN} (in), 13 SO (out), 14 VDD (power)

## MCP42100-I/SL
designator U?
Single/Dual Digital Potentiometer with SPI Interface, 14-Pin SOIC 150mil, Industrial Temperature; Manufacturer: Microchip; PartNumber: MCP42100-I/SL; DatasheetVersion: Jul-2003; PackageVersion: revBB, Aug-2009; PackageReference: SOIC-SL14; PackageDescription: 14-Lead Plastic Small Outline (SL) - Narrow, 3.90mm Body [SOIC]; Supplier 1: Digi-Key; Supplier Part Number 1: MCP42100-I/SL-ND; Mounting Technology: Surface Mount; Code_JEDEC: MS-012-AB; Code_IPC: SOIC127P600-14; ComponentLink1Description: Manufacturer URL; ComponentLink1URL: http://www.microchip.com/; ComponentLink2Description: Datasheet; ComponentLink2URL: http://ww1.microchip.com/downloads/en/DeviceDoc/11195c.pdf; ComponentLink3Description: Package Specification; ComponentLink3URL: http://www.microchip.com/stellent/groups/techpub_sg/documents/packagingspec/en012702.pdf
footprint SOIC-SL14_N (SOIC, 14-Leads, Body 8.7x3.9mm, Pitch 1.27mm, IPC Medium Density)
footprint SOIC-SL14_L (SOIC, 14-Leads, Body 8.7x3.9mm, Pitch 1.27mm, IPC High Density)
footprint SOIC-SL14_M (SOIC, 14-Leads, Body 8.7x3.9mm, Pitch 1.27mm, IPC Low Density)
pins: 1 ~{CS} (in), 2 SCK (in), 3 SI (in), 4 VSS (power), 5 PB1, 6 PW1, 7 PA1, 8 PA0, 9 PW0, 10 PB0, 11 ~{RS}, 12 ~{SHDN} (in), 13 SO (out), 14 VDD (power)

## MCP42100-I/ST
designator U?
Single/Dual Digital Potentiometer with SPI Interface, 14-Pin TSSOP, Industrial Temperature; Manufacturer: Microchip; PartNumber: MCP42100-I/ST; DatasheetVersion: Jul-2003; PackageVersion: revBB, Aug-2009; PackageReference: TSSOP-ST14; PackageDescription: 14-Lead Plastic Thin Shrink Small Outline (ST) - 4.4mm Body [TSSOP]; Supplier 1: Digi-Key; Supplier Part Number 1: MCP42100-I/ST-ND; Mounting Technology: Surface Mount; ComponentLink1Description: Manufacturer URL; ComponentLink1URL: http://www.microchip.com/; ComponentLink2Description: Datasheet; ComponentLink2URL: http://ww1.microchip.com/downloads/en/DeviceDoc/11195c.pdf; ComponentLink3Description: Package Specification; ComponentLink3URL: http://www.microchip.com/stellent/groups/techpub_sg/documents/packagingspec/en012702.pdf
footprint TSSOP-ST14_N (TSOP, 14-Leads, Body 5x4.4mm, Pitch 0.65mm, IPC Medium Density)
footprint TSSOP-ST14_L (TSOP, 14-Leads, Body 5x4.4mm, Pitch 0.65mm, IPC High Density)
footprint TSSOP-ST14_M (TSOP, 14-Leads, Body 5x4.4mm, Pitch 0.65mm, IPC Low Density)
pins: 1 ~{CS} (in), 2 SCK (in), 3 SI (in), 4 VSS (power), 5 PB1, 6 PW1, 7 PA1, 8 PA0, 9 PW0, 10 PB0, 11 ~{RS}, 12 ~{SHDN} (in), 13 SO (out), 14 VDD (power)

## MCP42100T-E/SL
designator U?
Single/Dual Digital Potentiometer with SPI Interface, 14-Pin SOIC 150mil, Extended Temperature, Tape and Reel; Manufacturer: Microchip; PartNumber: MCP42100T-E/SL; DatasheetVersion: Jul-2003; PackageVersion: revBB, Aug-2009; PackageReference: SOIC-SL14; PackageDescription: 14-Lead Plastic Small Outline (SL) - Narrow, 3.90mm Body [SOIC]; Supplier 1: Digi-Key; Supplier Part Number 1: MCP42100T-E/SL-ND; Mounting Technology: Surface Mount; Code_JEDEC: MS-012-AB; Code_IPC: SOIC127P600-14; ComponentLink1Description: Manufacturer URL; ComponentLink1URL: http://www.microchip.com/; ComponentLink2Description: Datasheet; ComponentLink2URL: http://ww1.microchip.com/downloads/en/DeviceDoc/11195c.pdf; ComponentLink3Description: Package Specification; ComponentLink3URL: http://www.microchip.com/stellent/groups/techpub_sg/documents/packagingspec/en012702.pdf
footprint SOIC-SL14_N (SOIC, 14-Leads, Body 8.7x3.9mm, Pitch 1.27mm, IPC Medium Density)
footprint SOIC-SL14_L (SOIC, 14-Leads, Body 8.7x3.9mm, Pitch 1.27mm, IPC High Density)
footprint SOIC-SL14_M (SOIC, 14-Leads, Body 8.7x3.9mm, Pitch 1.27mm, IPC Low Density)
pins: 1 ~{CS} (in), 2 SCK (in), 3 SI (in), 4 VSS (power), 5 PB1, 6 PW1, 7 PA1, 8 PA0, 9 PW0, 10 PB0, 11 ~{RS}, 12 ~{SHDN} (in), 13 SO (out), 14 VDD (power)

## MCP42100T-E/ST
designator U?
Single/Dual Digital Potentiometer with SPI Interface, 14-Pin TSSOP, Extended Temperature, Tape and Reel; Manufacturer: Microchip; PartNumber: MCP42100T-E/ST; DatasheetVersion: Jul-2003; PackageVersion: revBB, Aug-2009; PackageReference: TSSOP-ST14; PackageDescription: 14-Lead Plastic Thin Shrink Small Outline (ST) - 4.4mm Body [TSSOP]; Supplier 1: Digi-Key; Supplier Part Number 1: MCP42100T-E/ST-ND; Mounting Technology: Surface Mount; ComponentLink1Description: Manufacturer URL; ComponentLink1URL: http://www.microchip.com/; ComponentLink2Description: Datasheet; ComponentLink2URL: http://ww1.microchip.com/downloads/en/DeviceDoc/11195c.pdf; ComponentLink3Description: Package Specification; ComponentLink3URL: http://www.microchip.com/stellent/groups/techpub_sg/documents/packagingspec/en012702.pdf
footprint TSSOP-ST14_N (TSOP, 14-Leads, Body 5x4.4mm, Pitch 0.65mm, IPC Medium Density)
footprint TSSOP-ST14_L (TSOP, 14-Leads, Body 5x4.4mm, Pitch 0.65mm, IPC High Density)
footprint TSSOP-ST14_M (TSOP, 14-Leads, Body 5x4.4mm, Pitch 0.65mm, IPC Low Density)
pins: 1 ~{CS} (in), 2 SCK (in), 3 SI (in), 4 VSS (power), 5 PB1, 6 PW1, 7 PA1, 8 PA0, 9 PW0, 10 PB0, 11 ~{RS}, 12 ~{SHDN} (in), 13 SO (out), 14 VDD (power)

## MCP42100T-I/SL
designator U?
Single/Dual Digital Potentiometer with SPI Interface, 14-Pin SOIC 150mil, Industrial Temperature, Tape and Reel; Manufacturer: Microchip; PartNumber: MCP42100T-I/SL; DatasheetVersion: Jul-2003; PackageVersion: revBB, Aug-2009; PackageReference: SOIC-SL14; PackageDescription: 14-Lead Plastic Small Outline (SL) - Narrow, 3.90mm Body [SOIC]; Supplier 1: Digi-Key; Supplier Part Number 1: MCP42100T-I/SL-ND; Mounting Technology: Surface Mount; Code_JEDEC: MS-012-AB; Code_IPC: SOIC127P600-14; ComponentLink1Description: Manufacturer URL; ComponentLink1URL: http://www.microchip.com/; ComponentLink2Description: Datasheet; ComponentLink2URL: http://ww1.microchip.com/downloads/en/DeviceDoc/11195c.pdf; ComponentLink3Description: Package Specification; ComponentLink3URL: http://www.microchip.com/stellent/groups/techpub_sg/documents/packagingspec/en012702.pdf
footprint SOIC-SL14_N (SOIC, 14-Leads, Body 8.7x3.9mm, Pitch 1.27mm, IPC Medium Density)
footprint SOIC-SL14_L (SOIC, 14-Leads, Body 8.7x3.9mm, Pitch 1.27mm, IPC High Density)
footprint SOIC-SL14_M (SOIC, 14-Leads, Body 8.7x3.9mm, Pitch 1.27mm, IPC Low Density)
pins: 1 ~{CS} (in), 2 SCK (in), 3 SI (in), 4 VSS (power), 5 PB1, 6 PW1, 7 PA1, 8 PA0, 9 PW0, 10 PB0, 11 ~{RS}, 12 ~{SHDN} (in), 13 SO (out), 14 VDD (power)

## MCP42100T-I/ST
designator U?
Single/Dual Digital Potentiometer with SPI Interface, 14-Pin TSSOP, Industrial Temperature, Tape and Reel; Manufacturer: Microchip; PartNumber: MCP42100T-I/ST; DatasheetVersion: Jul-2003; PackageVersion: revBB, Aug-2009; PackageReference: TSSOP-ST14; PackageDescription: 14-Lead Plastic Thin Shrink Small Outline (ST) - 4.4mm Body [TSSOP]; Supplier 1: Digi-Key; Supplier Part Number 1: MCP42100T-I/ST-ND; Mounting Technology: Surface Mount; ComponentLink1Description: Manufacturer URL; ComponentLink1URL: http://www.microchip.com/; ComponentLink2Description: Datasheet; ComponentLink2URL: http://ww1.microchip.com/downloads/en/DeviceDoc/11195c.pdf; ComponentLink3Description: Package Specification; ComponentLink3URL: http://www.microchip.com/stellent/groups/techpub_sg/documents/packagingspec/en012702.pdf
footprint TSSOP-ST14_N (TSOP, 14-Leads, Body 5x4.4mm, Pitch 0.65mm, IPC Medium Density)
footprint TSSOP-ST14_L (TSOP, 14-Leads, Body 5x4.4mm, Pitch 0.65mm, IPC High Density)
footprint TSSOP-ST14_M (TSOP, 14-Leads, Body 5x4.4mm, Pitch 0.65mm, IPC Low Density)
pins: 1 ~{CS} (in), 2 SCK (in), 3 SI (in), 4 VSS (power), 5 PB1, 6 PW1, 7 PA1, 8 PA0, 9 PW0, 10 PB0, 11 ~{RS}, 12 ~{SHDN} (in), 13 SO (out), 14 VDD (power)

## TC500ACOE
designator U?
Precision Analog Front Ends, 16-Pin SOIC 300mil, Commercial Temperature; Manufacturer: Microchip; PartNumber: TC500ACOE; DatasheetVersion: revE, Nov-2008; PackageVersion: revBB, Aug-2009; PackageReference: SOIC-OE16; PackageDescription: 16-Lead Plastic Small Outline (OE) - Wide 7.50mm Body [SOIC]; Supplier 1: Digi-Key; Supplier Part Number 1: TC500ACOE-ND; Mounting Technology: Surface Mount; Code_JEDEC: MS-013-AA; Code_IPC: SOIC127P1030-16; ComponentLink1Description: Manufacturer URL; ComponentLink1URL: http://www.microchip.com/; ComponentLink2Description: Datasheet; ComponentLink2URL: http://ww1.microchip.com/downloads/en/DeviceDoc/21428e.pdf; ComponentLink3Description: Package Specification; ComponentLink3URL: http://www.microchip.com/stellent/groups/techpub_sg/documents/packagingspec/en012702.pdf
footprint SOIC-OE16_N (SOIC, 16-Leads, Body 10.3x7.5mm, Pitch 1.27mm, IPC Medium Density)
footprint SOIC-OE16_L (SOIC, 16-Leads, Body 10.3x7.5mm, Pitch 1.27mm, IPC High Density)
footprint SOIC-OE16_M (SOIC, 16-Leads, Body 10.3x7.5mm, Pitch 1.27mm, IPC Low Density)
pins: 1 CINT, 2 VSS (power), 3 CAZ, 4 BUF, 5 ACOM (in), 6 CREF- (in), 7 CREF+ (in), 8 VREF- (in), 9 VREF+ (in), 10 VIN- (in), 11 VIN+ (in), 12 A (in), 13 B (in), 14 CMPTR (out), 15 DGND (power), 16 VDD (power)

## TC500ACOE713
designator U?
Precision Analog Front Ends, 16-Pin SOIC 300mil, Commercial Temperature, Tape and Reel; Manufacturer: Microchip; PartNumber: TC500ACOE713; DatasheetVersion: revE, Nov-2008; PackageVersion: revBB, Aug-2009; PackageReference: SOIC-OE16; PackageDescription: 16-Lead Plastic Small Outline (OE) - Wide 7.50mm Body [SOIC]; Supplier 1: Digi-Key; Supplier Part Number 1: TC500ACOE713TR-ND; Mounting Technology: Surface Mount; Code_JEDEC: MS-013-AA; Code_IPC: SOIC127P1030-16; ComponentLink1Description: Manufacturer URL; ComponentLink1URL: http://www.microchip.com/; ComponentLink2Description: Datasheet; ComponentLink2URL: http://ww1.microchip.com/downloads/en/DeviceDoc/21428e.pdf; ComponentLink3Description: Package Specification; ComponentLink3URL: http://www.microchip.com/stellent/groups/techpub_sg/documents/packagingspec/en012702.pdf
footprint SOIC-OE16_N (SOIC, 16-Leads, Body 10.3x7.5mm, Pitch 1.27mm, IPC Medium Density)
footprint SOIC-OE16_L (SOIC, 16-Leads, Body 10.3x7.5mm, Pitch 1.27mm, IPC High Density)
footprint SOIC-OE16_M (SOIC, 16-Leads, Body 10.3x7.5mm, Pitch 1.27mm, IPC Low Density)
pins: 1 CINT, 2 VSS (power), 3 CAZ, 4 BUF, 5 ACOM (in), 6 CREF- (in), 7 CREF+ (in), 8 VREF- (in), 9 VREF+ (in), 10 VIN- (in), 11 VIN+ (in), 12 A (in), 13 B (in), 14 CMPTR (out), 15 DGND (power), 16 VDD (power)

## TC500ACPE
designator U?
Precision Analog Front Ends, 16-Pin PDIP, Commercial Temperature; Manufacturer: Microchip; PartNumber: TC500ACPE; DatasheetVersion: revE, Nov-2008; PackageVersion: revBB, Aug-2009; PackageReference: PDIP300-PE16; PackageDescription: 16-Lead Plastic Dual In-Line (PE) - 300 mil Body [PDIP]; Supplier 1: Digi-Key; Supplier Part Number 1: TC500ACPE-ND; Mounting Technology: Through Hole; Code_JEDEC: MS-001-BB; ComponentLink1Description: Manufacturer URL; ComponentLink1URL: http://www.microchip.com/; ComponentLink2Description: Datasheet; ComponentLink2URL: http://ww1.microchip.com/downloads/en/DeviceDoc/21428e.pdf; ComponentLink3Description: Package Specification; ComponentLink3URL: http://www.microchip.com/stellent/groups/techpub_sg/documents/packagingspec/en012702.pdf
footprint PDIP300-PE16 (DIP, 16-Leads, Row Spacing 7.62mm, Pitch 2.54mm, Body 19.2x6.6mm)
pins: 1 CINT, 2 VSS (power), 3 CAZ, 4 BUF, 5 ACOM (in), 6 CREF- (in), 7 CREF+ (in), 8 VREF- (in), 9 VREF+ (in), 10 VIN- (in), 11 VIN+ (in), 12 A (in), 13 B (in), 14 CMPTR (out), 15 DGND (power), 16 VDD (power)

## TC500AIJE
designator U?
Precision Analog Front Ends, 16-Pin CERDIP, Industrial Temperature; Manufacturer: Microchip; PartNumber: TC500AIJE; DatasheetVersion: revE, Nov-2008; PackageVersion: revBB, Aug-2009; PackageReference: CERDIP300-JE16; PackageDescription: 16-Lead Ceramic Dual In-Line (JE) - 300mil Body [CERDIP]; Supplier 1: Digi-Key; Supplier Part Number 1: TC500AIJE-ND; Mounting Technology: Through Hole; ComponentLink1Description: Manufacturer URL; ComponentLink1URL: http://www.microchip.com/; ComponentLink2Description: Datasheet; ComponentLink2URL: http://ww1.microchip.com/downloads/en/DeviceDoc/21428e.pdf; ComponentLink3Description: Package Specification; ComponentLink3URL: http://www.microchip.com/stellent/groups/techpub_sg/documents/packagingspec/en012702.pdf
footprint CERDIP300-JE16 (DIP, 16-Leads, Row Spacing 7.62mm, Pitch 2.54mm, Body 19.3x6.9mm)
pins: 1 CINT, 2 VSS (power), 3 CAZ, 4 BUF, 5 ACOM (in), 6 CREF- (in), 7 CREF+ (in), 8 VREF- (in), 9 VREF+ (in), 10 VIN- (in), 11 VIN+ (in), 12 A (in), 13 B (in), 14 CMPTR (out), 15 DGND (power), 16 VDD (power)

## TC500COE
designator U?
Precision Analog Front Ends, 16-Pin SOIC 300mil, Commercial Temperature; Manufacturer: Microchip; PartNumber: TC500COE; DatasheetVersion: revE, Nov-2008; PackageVersion: revBB, Aug-2009; PackageReference: SOIC-OE16; PackageDescription: 16-Lead Plastic Small Outline (OE) - Wide 7.50mm Body [SOIC]; Supplier 1: Digi-Key; Supplier Part Number 1: TC500COE-ND; Mounting Technology: Surface Mount; Code_JEDEC: MS-013-AA; Code_IPC: SOIC127P1030-16; ComponentLink1Description: Manufacturer URL; ComponentLink1URL: http://www.microchip.com/; ComponentLink2Description: Datasheet; ComponentLink2URL: http://ww1.microchip.com/downloads/en/DeviceDoc/21428e.pdf; ComponentLink3Description: Package Specification; ComponentLink3URL: http://www.microchip.com/stellent/groups/techpub_sg/documents/packagingspec/en012702.pdf
footprint SOIC-OE16_N (SOIC, 16-Leads, Body 10.3x7.5mm, Pitch 1.27mm, IPC Medium Density)
footprint SOIC-OE16_L (SOIC, 16-Leads, Body 10.3x7.5mm, Pitch 1.27mm, IPC High Density)
footprint SOIC-OE16_M (SOIC, 16-Leads, Body 10.3x7.5mm, Pitch 1.27mm, IPC Low Density)
pins: 1 CINT, 2 VSS (power), 3 CAZ, 4 BUF, 5 ACOM (in), 6 CREF- (in), 7 CREF+ (in), 8 VREF- (in), 9 VREF+ (in), 10 VIN- (in), 11 VIN+ (in), 12 A (in), 13 B (in), 14 CMPTR (out), 15 DGND (power), 16 VDD (power)

## TC500COE713
designator U?
Precision Analog Front Ends, 16-Pin SOIC 300mil, Commercial Temperature, Tape and Reel; Manufacturer: Microchip; PartNumber: TC500COE713; DatasheetVersion: revE, Nov-2008; PackageVersion: revBB, Aug-2009; PackageReference: SOIC-OE16; PackageDescription: 16-Lead Plastic Small Outline (OE) - Wide 7.50mm Body [SOIC]; Supplier 1: Digi-Key; Supplier Part Number 1: TC500COE713-ND; Mounting Technology: Surface Mount; Code_JEDEC: MS-013-AA; Code_IPC: SOIC127P1030-16; ComponentLink1Description: Manufacturer URL; ComponentLink1URL: http://www.microchip.com/; ComponentLink2Description: Datasheet; ComponentLink2URL: http://ww1.microchip.com/downloads/en/DeviceDoc/21428e.pdf; ComponentLink3Description: Package Specification; ComponentLink3URL: http://www.microchip.com/stellent/groups/techpub_sg/documents/packagingspec/en012702.pdf
footprint SOIC-OE16_N (SOIC, 16-Leads, Body 10.3x7.5mm, Pitch 1.27mm, IPC Medium Density)
footprint SOIC-OE16_L (SOIC, 16-Leads, Body 10.3x7.5mm, Pitch 1.27mm, IPC High Density)
footprint SOIC-OE16_M (SOIC, 16-Leads, Body 10.3x7.5mm, Pitch 1.27mm, IPC Low Density)
pins: 1 CINT, 2 VSS (power), 3 CAZ, 4 BUF, 5 ACOM (in), 6 CREF- (in), 7 CREF+ (in), 8 VREF- (in), 9 VREF+ (in), 10 VIN- (in), 11 VIN+ (in), 12 A (in), 13 B (in), 14 CMPTR (out), 15 DGND (power), 16 VDD (power)

## TC500CPE
designator U?
Precision Analog Front Ends, 16-Pin PDIP, Commercial Temperature; Manufacturer: Microchip; PartNumber: TC500CPE; DatasheetVersion: revE, Nov-2008; PackageVersion: revBB, Aug-2009; PackageReference: PDIP300-PE16; PackageDescription: 16-Lead Plastic Dual In-Line (PE) - 300 mil Body [PDIP]; Supplier 1: Digi-Key; Supplier Part Number 1: TC500CPE-ND; Mounting Technology: Through Hole; Code_JEDEC: MS-001-BB; ComponentLink1Description: Manufacturer URL; ComponentLink1URL: http://www.microchip.com/; ComponentLink2Description: Datasheet; ComponentLink2URL: http://ww1.microchip.com/downloads/en/DeviceDoc/21428e.pdf; ComponentLink3Description: Package Specification; ComponentLink3URL: http://www.microchip.com/stellent/groups/techpub_sg/documents/packagingspec/en012702.pdf
footprint PDIP300-PE16 (DIP, 16-Leads, Row Spacing 7.62mm, Pitch 2.54mm, Body 19.2x6.6mm)
pins: 1 CINT, 2 VSS (power), 3 CAZ, 4 BUF, 5 ACOM (in), 6 CREF- (in), 7 CREF+ (in), 8 VREF- (in), 9 VREF+ (in), 10 VIN- (in), 11 VIN+ (in), 12 A (in), 13 B (in), 14 CMPTR (out), 15 DGND (power), 16 VDD (power)

## TC500IJE
designator U?
Precision Analog Front Ends, 16-Pin CERDIP, Industrial Temperature; Manufacturer: Microchip; PartNumber: TC500IJE; DatasheetVersion: revE, Nov-2008; PackageVersion: revBB, Aug-2009; PackageReference: CERDIP300-JE16; PackageDescription: 16-Lead Ceramic Dual In-Line (JE) - 300mil Body [CERDIP]; Supplier 1: Digi-Key; Supplier Part Number 1: TC500IJE-ND; Mounting Technology: Through Hole; ComponentLink1Description: Manufacturer URL; ComponentLink1URL: http://www.microchip.com/; ComponentLink2Description: Datasheet; ComponentLink2URL: http://ww1.microchip.com/downloads/en/DeviceDoc/21428e.pdf; ComponentLink3Description: Package Specification; ComponentLink3URL: http://www.microchip.com/stellent/groups/techpub_sg/documents/packagingspec/en012702.pdf
footprint CERDIP300-JE16 (DIP, 16-Leads, Row Spacing 7.62mm, Pitch 2.54mm, Body 19.3x6.9mm)
pins: 1 CINT, 2 VSS (power), 3 CAZ, 4 BUF, 5 ACOM (in), 6 CREF- (in), 7 CREF+ (in), 8 VREF- (in), 9 VREF+ (in), 10 VIN- (in), 11 VIN+ (in), 12 A (in), 13 B (in), 14 CMPTR (out), 15 DGND (power), 16 VDD (power)

## TC510COG
designator U?
Precision Analog Front Ends, 24-Pin SOIC 300mil, Commercial Temperature; Manufacturer: Microchip; PartNumber: TC510COG; DatasheetVersion: revE, Nov-2008; PackageVersion: revBB, Aug-2009; PackageReference: SOIC-OG24; PackageDescription: 24-Lead Plastic Small Outline (OG) - Wide 7.50mm Body [SOIC]; Supplier 1: Digi-Key; Supplier Part Number 1: TC510COG-ND; Mounting Technology: Surface Mount; Code_JEDEC: MS-013-AD; ComponentLink1Description: Manufacturer URL; ComponentLink1URL: http://www.microchip.com/; ComponentLink2Description: Datasheet; ComponentLink2URL: http://ww1.microchip.com/downloads/en/DeviceDoc/21428e.pdf; ComponentLink3Description: Package Specification; ComponentLink3URL: http://www.microchip.com/stellent/groups/techpub_sg/documents/packagingspec/en012702.pdf
footprint SOIC-OG24_N (SOIC, 24-Leads, Body 15.4x7.5mm, Pitch 1.27mm, IPC Medium Density)
footprint SOIC-OG24_L (SOIC, 24-Leads, Body 15.4x7.5mm, Pitch 1.27mm, IPC High Density)
footprint SOIC-OG24_M (SOIC, 24-Leads, Body 15.4x7.5mm, Pitch 1.27mm, IPC Low Density)
pins: 1 VOUT- (power), 2 CINT, 3 CAZ, 4 BUF, 5 ACOM (in), 6 CREF- (in), 7 CREF+ (in), 8 VREF- (in), 9 VREF+ (in), 10 NC, 11 NC, 12 NC, 13 NC, 14 NC, 15 VIN- (in), 16 VIN+ (in), 17 B (in), 18 A (in), 19 CMPTR (out), 20 OSC (in), 21 VDD (power), 22 CAP+, 23 DGND (power), 24 CAP-

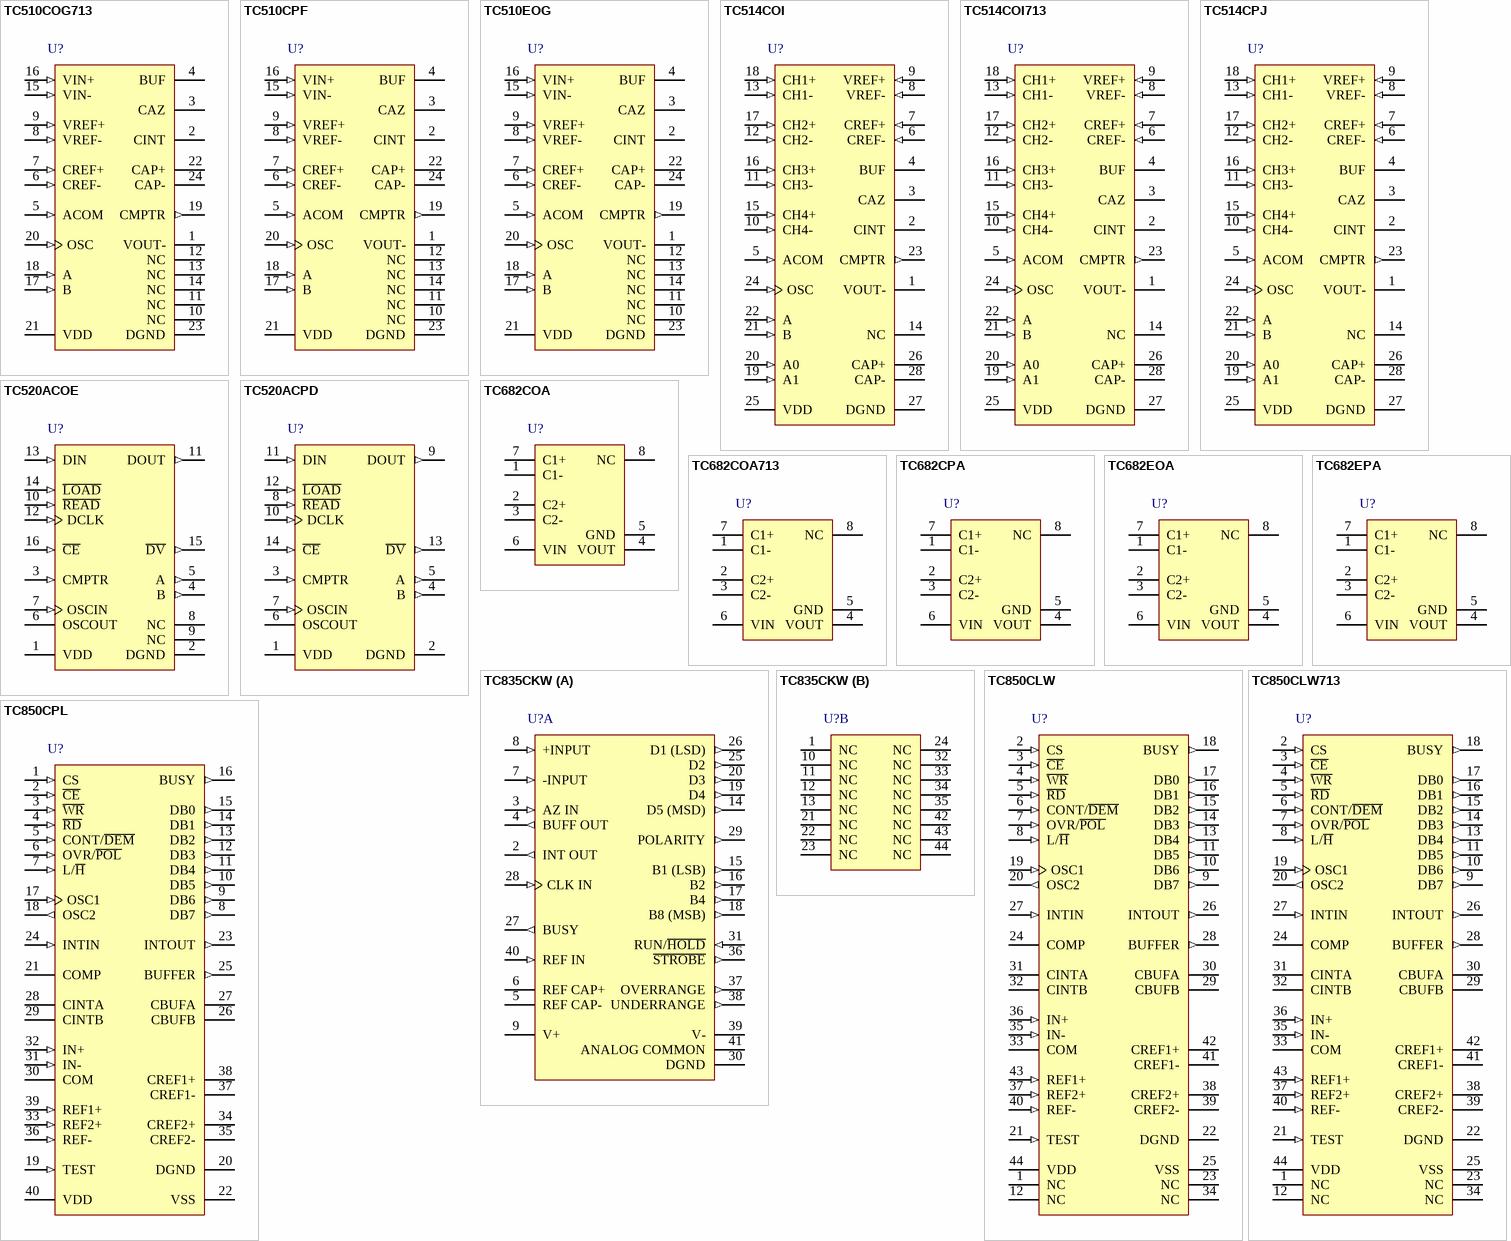
[diagram p37: symbols TC510COG713 to TC850CPL]

## TC510COG713
designator U?
Precision Analog Front Ends, 24-Pin SOIC 300mil, Commercial Temperature, Tape and Reel; Manufacturer: Microchip; PartNumber: TC510COG713; DatasheetVersion: revE, Nov-2008; PackageVersion: revBB, Aug-2009; PackageReference: SOIC-OG24; PackageDescription: 24-Lead Plastic Small Outline (OG) - Wide 7.50mm Body [SOIC]; Supplier 1: Digi-Key; Supplier Part Number 1: TC510COG713-ND; Mounting Technology: Surface Mount; Code_JEDEC: MS-013-AD; ComponentLink1Description: Manufacturer URL; ComponentLink1URL: http://www.microchip.com/; ComponentLink2Description: Datasheet; ComponentLink2URL: http://ww1.microchip.com/downloads/en/DeviceDoc/21428e.pdf; ComponentLink3Description: Package Specification; ComponentLink3URL: http://www.microchip.com/stellent/groups/techpub_sg/documents/packagingspec/en012702.pdf
footprint SOIC-OG24_N (SOIC, 24-Leads, Body 15.4x7.5mm, Pitch 1.27mm, IPC Medium Density)
footprint SOIC-OG24_L (SOIC, 24-Leads, Body 15.4x7.5mm, Pitch 1.27mm, IPC High Density)
footprint SOIC-OG24_M (SOIC, 24-Leads, Body 15.4x7.5mm, Pitch 1.27mm, IPC Low Density)
pins: 1 VOUT- (power), 2 CINT, 3 CAZ, 4 BUF, 5 ACOM (in), 6 CREF- (in), 7 CREF+ (in), 8 VREF- (in), 9 VREF+ (in), 10 NC, 11 NC, 12 NC, 13 NC, 14 NC, 15 VIN- (in), 16 VIN+ (in), 17 B (in), 18 A (in), 19 CMPTR (out), 20 OSC (in), 21 VDD (power), 22 CAP+, 23 DGND (power), 24 CAP-

## TC510CPF
designator U?
Precision Analog Front Ends, 24-Pin PDIP 300mil, Commercial Temperature; Manufacturer: Microchip; PartNumber: TC510CPF; DatasheetVersion: revA, Sep-2006; PackageVersion: revBB, Aug-2009; PackageReference: SPDIP300-PF24; PackageDescription: 24-Lead Skinny Plastic Dual In-Line (PF) - 300 mil Body [SPDIP]; Supplier 1: Digi-Key; Supplier Part Number 1: TC510CPF-ND; Mounting Technology: Through Hole; Code_JEDEC: MS-001-AF; ComponentLink1Description: Manufacturer URL; ComponentLink1URL: http://www.microchip.com/; ComponentLink2Description: Datasheet; ComponentLink2URL: http://ww1.microchip.com/downloads/en/DeviceDoc/22011A.pdf; ComponentLink3Description: Package Specification; ComponentLink3URL: http://www.microchip.com/stellent/groups/techpub_sg/documents/packagingspec/en012702.pdf
footprint SPDIP300-PF24 (DIP, 24-Leads, Row Spacing 7.62mm, Pitch 2.54mm, Body 30.9x6.6mm)
pins: 1 VOUT- (power), 2 CINT, 3 CAZ, 4 BUF, 5 ACOM (in), 6 CREF- (in), 7 CREF+ (in), 8 VREF- (in), 9 VREF+ (in), 10 NC, 11 NC, 12 NC, 13 NC, 14 NC, 15 VIN- (in), 16 VIN+ (in), 17 B (in), 18 A (in), 19 CMPTR (out), 20 OSC (in), 21 VDD (power), 22 CAP+, 23 DGND (power), 24 CAP-

## TC510EOG
designator U?
Precision Analog Front Ends, 24-Pin SOIC 300mil, Extended Temperature; Manufacturer: Microchip; PartNumber: TC510EOG; DatasheetVersion: revE, Nov-2008; PackageVersion: revBB, Aug-2009; PackageReference: SOIC-OG24; PackageDescription: 24-Lead Plastic Small Outline (OG) - Wide 7.50mm Body [SOIC]; Mounting Technology: Surface Mount; Code_JEDEC: MS-013-AD; ComponentLink1Description: Manufacturer URL; ComponentLink1URL: http://www.microchip.com/; ComponentLink2Description: Datasheet; ComponentLink2URL: http://ww1.microchip.com/downloads/en/DeviceDoc/21428e.pdf; ComponentLink3Description: Package Specification; ComponentLink3URL: http://www.microchip.com/stellent/groups/techpub_sg/documents/packagingspec/en012702.pdf
footprint SOIC-OG24_N (SOIC, 24-Leads, Body 15.4x7.5mm, Pitch 1.27mm, IPC Medium Density)
footprint SOIC-OG24_L (SOIC, 24-Leads, Body 15.4x7.5mm, Pitch 1.27mm, IPC High Density)
footprint SOIC-OG24_M (SOIC, 24-Leads, Body 15.4x7.5mm, Pitch 1.27mm, IPC Low Density)
pins: 1 VOUT- (power), 2 CINT, 3 CAZ, 4 BUF, 5 ACOM (in), 6 CREF- (in), 7 CREF+ (in), 8 VREF- (in), 9 VREF+ (in), 10 NC, 11 NC, 12 NC, 13 NC, 14 NC, 15 VIN- (in), 16 VIN+ (in), 17 B (in), 18 A (in), 19 CMPTR (out), 20 OSC (in), 21 VDD (power), 22 CAP+, 23 DGND (power), 24 CAP-

## TC514COI
designator U?
Precision Analog Front Ends, 28-Pin SOIC 300mil, Commercial Temperature; Manufacturer: Microchip; PartNumber: TC514COI; DatasheetVersion: revE, Nov-2008; PackageVersion: revBB, Aug-2009; PackageReference: SOIC-OI28; PackageDescription: 28-Lead Plastic Small Outline (OI) - Wide 7.50mm Body [SOIC]; Supplier 1: Digi-Key; Supplier Part Number 1: TC514COI-ND; Mounting Technology: Surface Mount; Code_JEDEC: MS-013-AE; ComponentLink1Description: Manufacturer URL; ComponentLink1URL: http://www.microchip.com/; ComponentLink2Description: Datasheet; ComponentLink2URL: http://ww1.microchip.com/downloads/en/DeviceDoc/21428e.pdf; ComponentLink3Description: Package Specification; ComponentLink3URL: http://www.microchip.com/stellent/groups/techpub_sg/documents/packagingspec/en012702.pdf
footprint SOIC-OI28_N (SOIC, 28-Leads, Body 17.9x7.5mm, Pitch 1.27mm, IPC Medium Density)
footprint SOIC-OI28_L (SOIC, 28-Leads, Body 17.9x7.5mm, Pitch 1.27mm, IPC High Density)
footprint SOIC-OI28_M (SOIC, 28-Leads, Body 17.9x7.5mm, Pitch 1.27mm, IPC Low Density)
pins: 1 VOUT- (power), 2 CINT, 3 CAZ, 4 BUF, 5 ACOM (in), 6 CREF- (in), 7 CREF+ (in), 8 VREF- (in), 9 VREF+ (in), 10 CH4- (in), 11 CH3- (in), 12 CH2- (in), 13 CH1- (in), 14 NC, 15 CH4+ (in), 16 CH3+ (in), 17 CH2+ (in), 18 CH1+ (in), 19 A1 (in), 20 A0 (in), 21 B (in), 22 A (in), 23 CMPTR (out), 24 OSC (in), 25 VDD (power), 26 CAP+, 27 DGND (power), 28 CAP-